# Altium integrated library TI Power Management Power Modules.IntLib: 831 symbols (part 8 of 44)
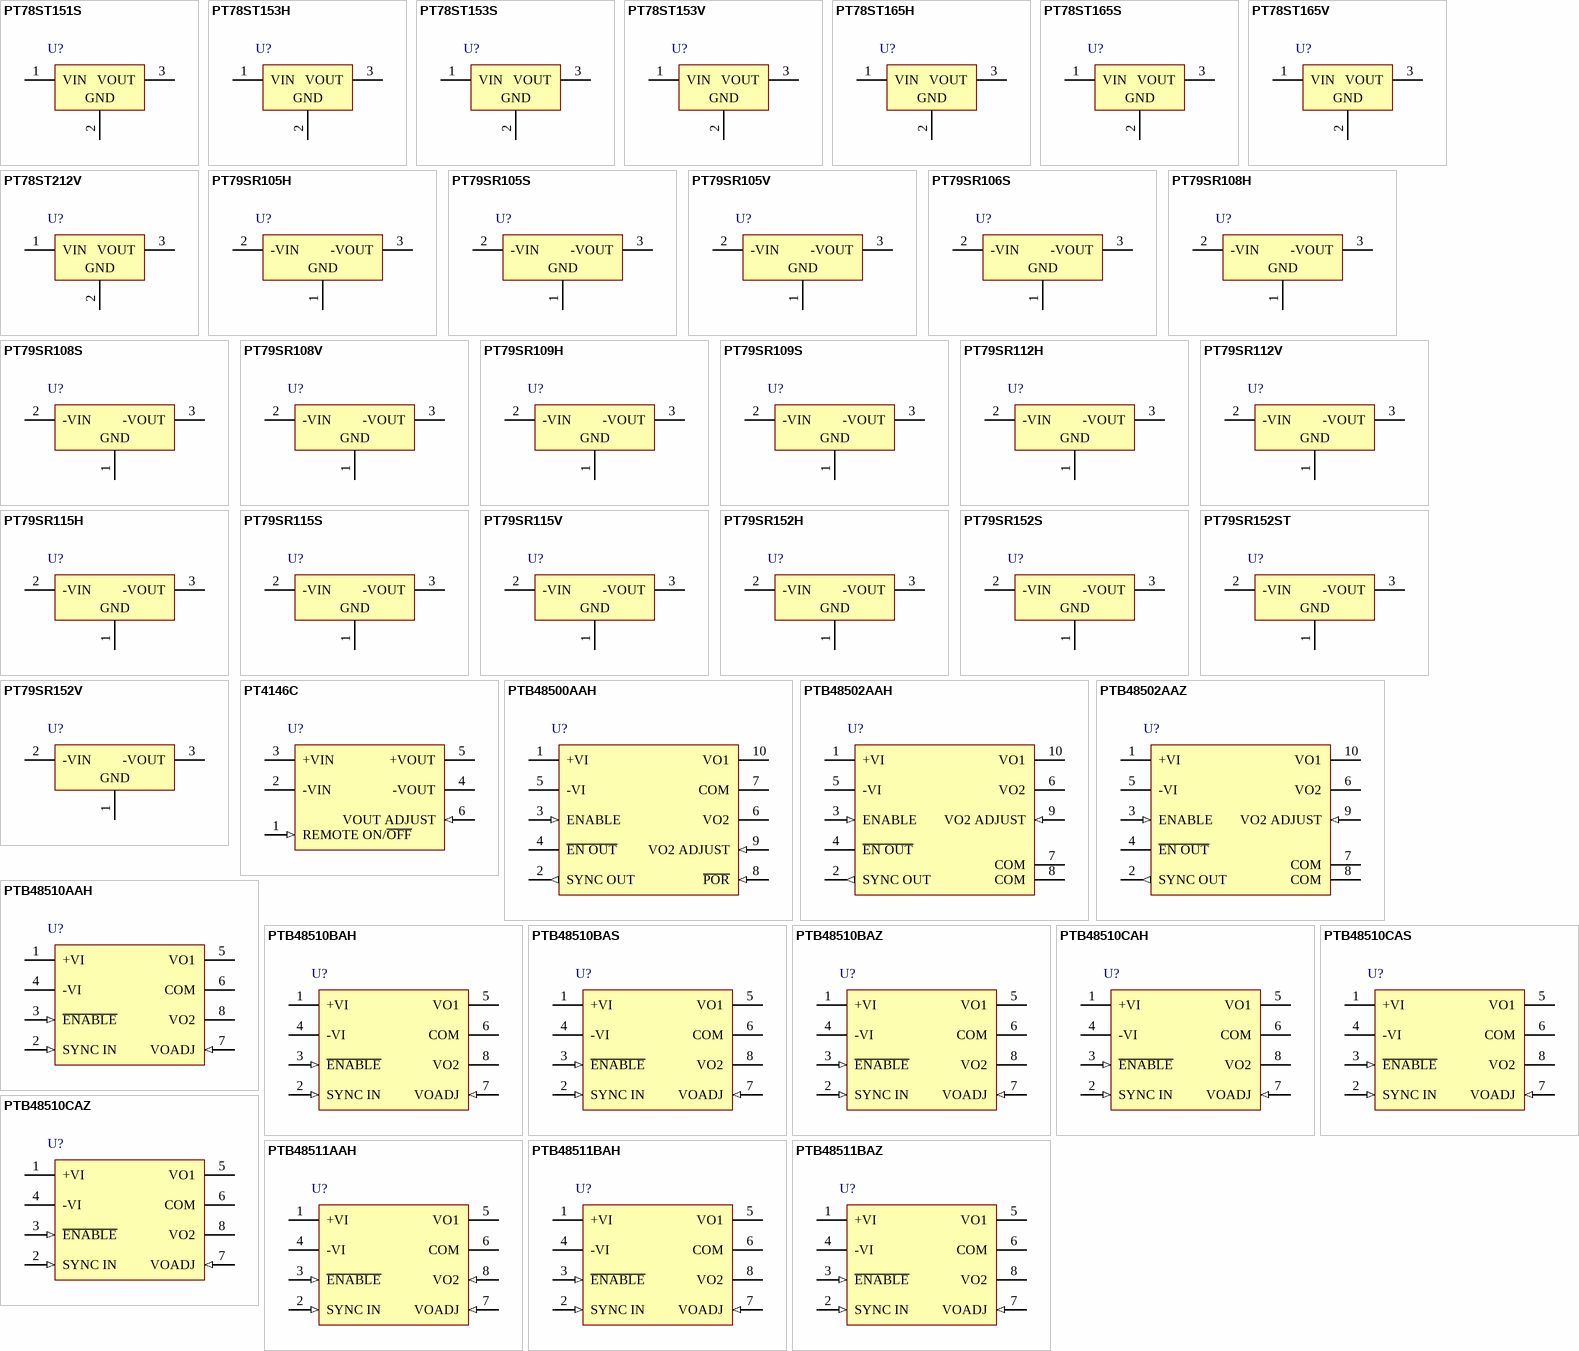
[diagram p30: symbols PT78ST151S to PTB48511BAZ]

## PT78ST165H
designator U?
6.5 V Vout 1.5 Amp Wide-Input Positive Step-Down ISR, -40 to 85 degC, 3-pin Module (EFA3), Pb-Free (RoHS); Manufacturer: Texas Instruments; PartNumber: PT78ST165H; Iout(Max)(A): 1.5; Regulated Outputs(#): 1; SubFamily: Non-Isolated POL; Vin(Max)(V): 38; Vin(Min)(V): 9; Vout(Max)(V): 6.5; DatasheetVersion: SLTS059A; PackageVersion: 4203861/C; PackageReference: EFA3; PackageDescription: 3-Pin Plastic In-Line, Body 23.87 x 22.86 mm; Supplier 1: Digi-Key; Supplier Part Number 1: PT78ST165H-ND; Supplier 2: Newark; Supplier Part Number 2: 75C7267; Supplier 3: Mouser; Supplier Part Number 3: 595-PT78ST165H; Eco-Plan: Pb-Free (RoHS); Vout(Min)(V): 6.5; Mounting Technology: Through Hole; ComponentLink1Description: Manufacturer URL; ComponentLink1URL: http://www.ti.com/; ComponentLink2Description: Datasheet; ComponentLink2URL: http://www.ti.com/general/docs/lit/getliterature.tsp?genericPartNumber=PT78ST165&fileType=pdf; ComponentLink3Description: Package Specification; ComponentLink3URL: http://www.ti.com/lit/ml/mpsi049b/mpsi049b.pdf; ComponentLink4Description: URL Link1; ComponentLink4URL: Samples URL:http://www.ti.com/product/pt78st165#samples
footprint TI-EFA3_V (Module, 3-Leads, Body 23.87x22.86 mm)
pins: 1 VIN (power), 2 GND (power), 3 VOUT (power)

## PT78ST165S
designator U?
6.5 V Vout 1.5 Amp Wide-Input Positive Step-Down ISR, -40 to 85 degC, 3-pin Module (EFC3), Pb-Free (RoHS); Manufacturer: Texas Instruments; PartNumber: PT78ST165S; Iout(Max)(A): 1.5; Regulated Outputs(#): 1; SubFamily: Non-Isolated POL; Vin(Max)(V): 38; Vin(Min)(V): 9; Vout(Max)(V): 6.5; DatasheetVersion: SLTS059A; PackageVersion: 4203862/C; PackageReference: EFC3; PackageDescription: 3-Pin Plastic In-Line, Body 23.87 x 22.86 mm; Supplier 1: Digi-Key; Supplier Part Number 1: 296-20293-ND; Supplier 2: Newark; Supplier Part Number 2: 75C7268; Supplier 3: Mouser; Supplier Part Number 3: 595-PT78ST165S; Eco-Plan: Pb-Free (RoHS); Vout(Min)(V): 6.5; Mounting Technology: Surface Mount; ComponentLink1Description: Manufacturer URL; ComponentLink1URL: http://www.ti.com/; ComponentLink2Description: Datasheet; ComponentLink2URL: http://www.ti.com/general/docs/lit/getliterature.tsp?genericPartNumber=PT78ST165&fileType=pdf; ComponentLink3Description: Package Specification; ComponentLink3URL: http://www.ti.com/lit/ml/mpsi050b/mpsi050b.pdf; ComponentLink4Description: URL Link1; ComponentLink4URL: Samples URL:http://www.ti.com/product/pt78st165#samples
footprint TI-EFC3_V (3-Leads Plastic In-Line, Body 22.86x23.87mm)
pins: 1 VIN (power), 2 GND (power), 3 VOUT (power)

## PT78ST165V
designator U?
6.5 V Vout 1.5 Amp Wide-Input Positive Step-Down ISR, -40 to 85 degC, 3-pin Module (EFD3), Pb-Free (RoHS); Manufacturer: Texas Instruments; PartNumber: PT78ST165V; Iout(Max)(A): 1.5; Regulated Outputs(#): 1; SubFamily: Non-Isolated POL; Vin(Max)(V): 38; Vin(Min)(V): 9; Vout(Max)(V): 6.5; DatasheetVersion: SLTS059A; PackageVersion: 4203860/A; PackageReference: EFD3; PackageDescription: 3-Pin Plastic In-Line, Body 23.87 x 22.86 mm; Supplier 1: Digi-Key; Supplier Part Number 1: 296-20294-ND; Supplier 2: Newark; Supplier Part Number 2: 75C7270; Supplier 3: Mouser; Supplier Part Number 3: 595-PT78ST165V; Eco-Plan: Pb-Free (RoHS); Vout(Min)(V): 6.5; Mounting Technology: Through Hole; ComponentLink1Description: Manufacturer URL; ComponentLink1URL: http://www.ti.com/; ComponentLink2Description: Datasheet; ComponentLink2URL: http://www.ti.com/general/docs/lit/getliterature.tsp?genericPartNumber=PT78ST165&fileType=pdf; ComponentLink3Description: Package Specification; ComponentLink3URL: http://www.ti.com/lit/ml/mpsi048/mpsi048.pdf; ComponentLink4Description: URL Link1; ComponentLink4URL: Samples URL:http://www.ti.com/product/pt78st165#samples
footprint TI-EFD3_V (Module, 3-Leads, Body 22.86x7.87mm)
pins: 1 VIN (power), 2 GND (power), 3 VOUT (power)

## PT78ST212V
designator U?
12 V Vout 2 Amp 24 V Input Positive Step-Down ISR, -40 to 55 degC, 3-pin Module (EFF3), Pb-Free (RoHS); Manufacturer: Texas Instruments; PartNumber: PT78ST212V; Iout(Max)(A): 2; Regulated Outputs(#): 1; SubFamily: Non-Isolated POL; Vin(Max)(V): 28; Vin(Min)(V): 16; Vout(Max)(V): 12; DatasheetVersion: SLTS060A; PackageVersion: 4203866/B; PackageReference: EFF3; PackageDescription: 3-Pin Metal In-Line, Body 24.89 x 25.65 mm; Supplier 1: Digi-Key; Supplier Part Number 1: PT78ST212V-ND; Supplier 2: Newark; Supplier Part Number 2: 75C7275; Supplier 3: Mouser; Supplier Part Number 3: 595-PT78ST212V; Eco-Plan: Pb-Free (RoHS); Vout(Min)(V): 12; Mounting Technology: Through Hole; ComponentLink1Description: Manufacturer URL; ComponentLink1URL: http://www.ti.com/; ComponentLink2Description: Datasheet; ComponentLink2URL: http://www.ti.com/general/docs/lit/getliterature.tsp?genericPartNumber=PT78ST212&fileType=pdf; ComponentLink3Description: Package Specification; ComponentLink3URL: http://www.ti.com/lit/ml/mmsi062a/mmsi062a.pdf; ComponentLink4Description: URL Link1; ComponentLink4URL: Samples URL:http://www.ti.com/product/pt78st212
footprint TI-EFF3_V (Module, 3-Leads, Body 25.65x9.65mm)
pins: 1 VIN (power), 2 GND (power), 3 VOUT (power)

## PT79SR105H
designator U?
-5 V Vout 1.5 Amp Wide-Input Negative Step-Down ISR, -40 to 85 degC, 3-pin Module (EFA3), Pb-Free (RoHS); Manufacturer: Texas Instruments; PartNumber: PT79SR105H; Iout(Max)(A): -1.5; Regulated Outputs(#): 1; SubFamily: Non-Isolated POL; Vin(Max)(V): -30; Vin(Min)(V): -9; DatasheetVersion: SLTS061A; PackageVersion: 4203861/C; PackageReference: EFA3; PackageDescription: 3-Pin Plastic In-Line, Body 23.87 x 22.86 mm; Supplier 1: Digi-Key; Supplier Part Number 1: PT79SR105H-ND; Supplier 2: Newark; Supplier Part Number 2: 75C7276; Supplier 3: Mouser; Supplier Part Number 3: 595-PT79SR105H; Eco-Plan: Pb-Free (RoHS); Vout(Max)(V): -5; Vout(Min)(V): -5; Mounting Technology: Through Hole; ComponentLink1Description: Manufacturer URL; ComponentLink1URL: http://www.ti.com/; ComponentLink2Description: Datasheet; ComponentLink2URL: http://www.ti.com/general/docs/lit/getliterature.tsp?genericPartNumber=PT79SR105&fileType=pdf; ComponentLink3Description: Package Specification; ComponentLink3URL: http://www.ti.com/lit/ml/mpsi049b/mpsi049b.pdf; ComponentLink4Description: URL Link1; ComponentLink4URL: Samples URL:http://www.ti.com/product/pt79sr105#samples
footprint TI-EFA3_V (Module, 3-Leads, Body 23.87x22.86 mm)
pins: 1 GND (power), 2 -VIN (power), 3 -VOUT (power)

## PT79SR105S
designator U?
-5 V Vout 1.5 Amp Wide-Input Negative Step-Down ISR, -40 to 85 degC, 3-pin Module (EFC3), Pb-Free (RoHS); Manufacturer: Texas Instruments; PartNumber: PT79SR105S; Iout(Max)(A): -1.5; Regulated Outputs(#): 1; SubFamily: Non-Isolated POL; Vin(Max)(V): -30; Vin(Min)(V): -9; DatasheetVersion: SLTS061A; PackageVersion: 4203862/C; PackageReference: EFC3; PackageDescription: 3-Pin Plastic In-Line, Body 23.87 x 22.86 mm; Supplier 1: Digi-Key; Supplier Part Number 1: PT79SR105S-ND; Supplier 2: Newark; Supplier Part Number 2: 75C7277; Supplier 3: Mouser; Supplier Part Number 3: 595-PT79SR105S; Eco-Plan: Pb-Free (RoHS); Vout(Max)(V): -5; Vout(Min)(V): -5; Mounting Technology: Surface Mount; ComponentLink1Description: Manufacturer URL; ComponentLink1URL: http://www.ti.com/; ComponentLink2Description: Datasheet; ComponentLink2URL: http://www.ti.com/general/docs/lit/getliterature.tsp?genericPartNumber=PT79SR105&fileType=pdf; ComponentLink3Description: Package Specification; ComponentLink3URL: http://www.ti.com/lit/ml/mpsi050b/mpsi050b.pdf; ComponentLink4Description: URL Link1; ComponentLink4URL: Samples URL:http://www.ti.com/product/pt79sr105#samples
footprint TI-EFC3_V (3-Leads Plastic In-Line, Body 22.86x23.87mm)
pins: 1 GND (power), 2 -VIN (power), 3 -VOUT (power)

## PT79SR105V
designator U?
-5 V Vout 1.5 Amp Wide-Input Negative Step-Down ISR, -40 to 85 degC, 3-pin Module (EFD3), Pb-Free (RoHS); Manufacturer: Texas Instruments; PartNumber: PT79SR105V; Iout(Max)(A): -1.5; Regulated Outputs(#): 1; SubFamily: Non-Isolated POL; Vin(Max)(V): -30; Vin(Min)(V): -9; DatasheetVersion: SLTS061A; PackageVersion: 4203860/A; PackageReference: EFD3; PackageDescription: 3-Pin Plastic In-Line, Body 23.87 x 22.86 mm; Supplier 1: Digi-Key; Supplier Part Number 1: PT79SR105V-ND; Supplier 2: Newark; Supplier Part Number 2: 75C7279; Supplier 3: Mouser; Supplier Part Number 3: 595-PT79SR105V; Eco-Plan: Pb-Free (RoHS); Vout(Max)(V): -5; Vout(Min)(V): -5; Mounting Technology: Through Hole; ComponentLink1Description: Manufacturer URL; ComponentLink1URL: http://www.ti.com/; ComponentLink2Description: Datasheet; ComponentLink2URL: http://www.ti.com/general/docs/lit/getliterature.tsp?genericPartNumber=PT79SR105&fileType=pdf; ComponentLink3Description: Package Specification; ComponentLink3URL: http://www.ti.com/lit/ml/mpsi048/mpsi048.pdf; ComponentLink4Description: URL Link1; ComponentLink4URL: Samples URL:http://www.ti.com/product/pt79sr105#samples
footprint TI-EFD3_V (Module, 3-Leads, Body 22.86x7.87mm)
pins: 1 GND (power), 2 -VIN (power), 3 -VOUT (power)

## PT79SR106S
designator U?
-6 V Vout 1.5 Amp Wide-Input Negative Step-Down ISR, -40 to 85 degC, 3-pin Module (EFC3), Pb-Free (RoHS); Manufacturer: Texas Instruments; PartNumber: PT79SR106S; Iout(Max)(A): -1.5; Regulated Outputs(#): 1; SubFamily: Non-Isolated POL; Vin(Max)(V): -30; Vin(Min)(V): -9; DatasheetVersion: SLTS061A; PackageVersion: 4203862/C; PackageReference: EFC3; PackageDescription: 3-Pin Plastic In-Line, Body 23.87 x 22.86 mm; Supplier 1: Digi-Key; Supplier Part Number 1: PT79SR106S-ND; Supplier 2: Newark; Supplier Part Number 2: 75C7280; Supplier 3: Mouser; Supplier Part Number 3: 595-PT79SR106S; Eco-Plan: Pb-Free (RoHS); Vout(Max)(V): -6; Vout(Min)(V): -6; Mounting Technology: Surface Mount; ComponentLink1Description: Manufacturer URL; ComponentLink1URL: http://www.ti.com/; ComponentLink2Description: Datasheet; ComponentLink2URL: http://www.ti.com/general/docs/lit/getliterature.tsp?genericPartNumber=PT79SR106&fileType=pdf; ComponentLink3Description: Package Specification; ComponentLink3URL: http://www.ti.com/lit/ml/mpsi050b/mpsi050b.pdf; ComponentLink4Description: URL Link1; ComponentLink4URL: Samples URL:http://www.ti.com/product/pt79sr106#samples
footprint TI-EFC3_V (3-Leads Plastic In-Line, Body 22.86x23.87mm)
pins: 1 GND (power), 2 -VIN (power), 3 -VOUT (power)

## PT79SR108H
designator U?
-8 V Vout 1.5 Amp Wide-Input Negative Step-Down ISR, -40 to 60 degC, 3-pin Module (EFA3), Pb-Free (RoHS); Manufacturer: Texas Instruments; PartNumber: PT79SR108H; Iout(Max)(A): -1.5; Regulated Outputs(#): 1; SubFamily: Non-Isolated POL; Vin(Max)(V): -30; Vin(Min)(V): -12; DatasheetVersion: SLTS061A; PackageVersion: 4203861/C; PackageReference: EFA3; PackageDescription: 3-Pin Plastic In-Line, Body 23.87 x 22.86 mm; Supplier 1: Digi-Key; Supplier Part Number 1: PT79SR108H-ND; Supplier 2: Newark; Supplier Part Number 2: 75C7281; Supplier 3: Mouser; Supplier Part Number 3: 595-PT79SR108H; Eco-Plan: Pb-Free (RoHS); Vout(Max)(V): -8; Vout(Min)(V): -8; Mounting Technology: Through Hole; ComponentLink1Description: Manufacturer URL; ComponentLink1URL: http://www.ti.com/; ComponentLink2Description: Datasheet; ComponentLink2URL: http://www.ti.com/general/docs/lit/getliterature.tsp?genericPartNumber=PT79SR108&fileType=pdf; ComponentLink3Description: Package Specification; ComponentLink3URL: http://www.ti.com/lit/ml/mpsi049b/mpsi049b.pdf; ComponentLink4Description: URL Link1; ComponentLink4URL: Samples URL:http://www.ti.com/product/pt79sr108#samples
footprint TI-EFA3_V (Module, 3-Leads, Body 23.87x22.86 mm)
pins: 1 GND (power), 2 -VIN (power), 3 -VOUT (power)

## PT79SR108S
designator U?
-8 V Vout 1.5 Amp Wide-Input Negative Step-Down ISR, -40 to 60 degC, 3-pin Module (EFC3), Pb-Free (RoHS); Manufacturer: Texas Instruments; PartNumber: PT79SR108S; Iout(Max)(A): -1.5; Regulated Outputs(#): 1; SubFamily: Non-Isolated POL; Vin(Max)(V): -30; Vin(Min)(V): -12; DatasheetVersion: SLTS061A; PackageVersion: 4203862/C; PackageReference: EFC3; PackageDescription: 3-Pin Plastic In-Line, Body 23.87 x 22.86 mm; Supplier 1: Digi-Key; Supplier Part Number 1: PT79SR108S-ND; Supplier 2: Mouser; Supplier Part Number 2: 595-PT79SR108S; Eco-Plan: Pb-Free (RoHS); Vout(Max)(V): -8; Vout(Min)(V): -8; Mounting Technology: Surface Mount; ComponentLink1Description: Manufacturer URL; ComponentLink1URL: http://www.ti.com/; ComponentLink2Description: Datasheet; ComponentLink2URL: http://www.ti.com/general/docs/lit/getliterature.tsp?genericPartNumber=PT79SR108&fileType=pdf; ComponentLink3Description: Package Specification; ComponentLink3URL: http://www.ti.com/lit/ml/mpsi050b/mpsi050b.pdf; ComponentLink4Description: URL Link1; ComponentLink4URL: Samples URL:http://www.ti.com/product/pt79sr108#samples
footprint TI-EFC3_V (3-Leads Plastic In-Line, Body 22.86x23.87mm)
pins: 1 GND (power), 2 -VIN (power), 3 -VOUT (power)

## PT79SR108V
designator U?
-8 V Vout 1.5 Amp Wide-Input Negative Step-Down ISR, -40 to 60 degC, 3-pin Module (EFD3), Pb-Free (RoHS); Manufacturer: Texas Instruments; PartNumber: PT79SR108V; Iout(Max)(A): -1.5; Regulated Outputs(#): 1; SubFamily: Non-Isolated POL; Vin(Max)(V): -30; Vin(Min)(V): -12; DatasheetVersion: SLTS061A; PackageVersion: 4203860/A; PackageReference: EFD3; PackageDescription: 3-Pin Plastic In-Line, Body 23.87 x 22.86 mm; Supplier 1: Digi-Key; Supplier Part Number 1: PT79SR108V-ND; Supplier 2: Newark; Supplier Part Number 2: 75C7284; Supplier 3: Mouser; Supplier Part Number 3: 595-PT79SR108V; Eco-Plan: Pb-Free (RoHS); Vout(Max)(V): -8; Vout(Min)(V): -8; Mounting Technology: Through Hole; ComponentLink1Description: Manufacturer URL; ComponentLink1URL: http://www.ti.com/; ComponentLink2Description: Datasheet; ComponentLink2URL: http://www.ti.com/general/docs/lit/getliterature.tsp?genericPartNumber=PT79SR108&fileType=pdf; ComponentLink3Description: Package Specification; ComponentLink3URL: http://www.ti.com/lit/ml/mpsi048/mpsi048.pdf; ComponentLink4Description: URL Link1; ComponentLink4URL: Samples URL:http://www.ti.com/product/pt79sr108#samples
footprint TI-EFD3_V (Module, 3-Leads, Body 22.86x7.87mm)
pins: 1 GND (power), 2 -VIN (power), 3 -VOUT (power)

## PT79SR109H
designator U?
-9 V Vout 1.5 Amp Wide-Input Negative Step-Down ISR, -40 to 85 degC, 3-pin Module (EFA3), Pb-Free (RoHS); Manufacturer: Texas Instruments; PartNumber: PT79SR109H; Iout(Max)(A): 1.5; Regulated Outputs(#): 1; SubFamily: Non-Isolated POL; Vin(Max)(V): -30; Vin(Min)(V): -13; DatasheetVersion: SLTS061A; PackageVersion: 4203861/C; PackageReference: EFA3; PackageDescription: 3-Pin Plastic In-Line, Body 23.87 x 22.86 mm; Supplier 1: Digi-Key; Supplier Part Number 1: 296-20295-ND; Supplier 2: Newark; Supplier Part Number 2: 75C7285; Supplier 3: Mouser; Supplier Part Number 3: 595-PT79SR109H; Eco-Plan: Pb-Free (RoHS); Vout(Max)(V): -9; Vout(Min)(V): -9; Mounting Technology: Through Hole; ComponentLink1Description: Manufacturer URL; ComponentLink1URL: http://www.ti.com/; ComponentLink2Description: Datasheet; ComponentLink2URL: http://www.ti.com/general/docs/lit/getliterature.tsp?genericPartNumber=PT79SR109&fileType=pdf; ComponentLink3Description: Package Specification; ComponentLink3URL: http://www.ti.com/lit/ml/mpsi049b/mpsi049b.pdf; ComponentLink4Description: URL Link1; ComponentLink4URL: Samples URL:http://www.ti.com/product/pt79sr109#samples
footprint TI-EFA3_V (Module, 3-Leads, Body 23.87x22.86 mm)
pins: 1 GND (power), 2 -VIN (power), 3 -VOUT (power)

## PT79SR109S
designator U?
-9 V Vout 1.5 Amp Wide-Input Negative Step-Down ISR, -40 to 85 degC, 3-pin Module (EFC3), Pb-Free (RoHS); Manufacturer: Texas Instruments; PartNumber: PT79SR109S; Iout(Max)(A): 1.5; Regulated Outputs(#): 1; SubFamily: Non-Isolated POL; Vin(Max)(V): -30; Vin(Min)(V): -13; DatasheetVersion: SLTS061A; PackageVersion: 4203862/C; PackageReference: EFC3; PackageDescription: 3-Pin Plastic In-Line, Body 23.87 x 22.86 mm; Supplier 1: Digi-Key; Supplier Part Number 1: 296-20296-ND; Supplier 2: Newark; Supplier Part Number 2: 75C7286; Supplier 3: Mouser; Supplier Part Number 3: 595-PT79SR109S; Eco-Plan: Pb-Free (RoHS); Vout(Max)(V): -9; Vout(Min)(V): -9; Mounting Technology: Surface Mount; ComponentLink1Description: Manufacturer URL; ComponentLink1URL: http://www.ti.com/; ComponentLink2Description: Datasheet; ComponentLink2URL: http://www.ti.com/general/docs/lit/getliterature.tsp?genericPartNumber=PT79SR109&fileType=pdf; ComponentLink3Description: Package Specification; ComponentLink3URL: http://www.ti.com/lit/ml/mpsi050b/mpsi050b.pdf; ComponentLink4Description: URL Link1; ComponentLink4URL: Samples URL:http://www.ti.com/product/pt79sr109#samples
footprint TI-EFC3_V (3-Leads Plastic In-Line, Body 22.86x23.87mm)
pins: 1 GND (power), 2 -VIN (power), 3 -VOUT (power)

## PT79SR112H
designator U?
-12 V Vout 1.5 Amp Wide-Input Negative Step-Down ISR, -40 to 85 degC, 3-pin Module (EFA3), Pb-Free (RoHS); Manufacturer: Texas Instruments; PartNumber: PT79SR112H; Iout(Max)(A): 1.5; Regulated Outputs(#): 1; SubFamily: Non-Isolated POL; Vin(Max)(V): -30; Vin(Min)(V): -16; DatasheetVersion: SLTS061A; PackageVersion: 4203861/C; PackageReference: EFA3; PackageDescription: 3-Pin Plastic In-Line, Body 23.87 x 22.86 mm; Supplier 1: Digi-Key; Supplier Part Number 1: PT79SR112H-ND; Supplier 2: Newark; Supplier Part Number 2: 75C7288; Supplier 3: Mouser; Supplier Part Number 3: 595-PT79SR112H; Eco-Plan: Pb-Free (RoHS); Vout(Max)(V): -12; Vout(Min)(V): -12; Mounting Technology: Through Hole; ComponentLink1Description: Manufacturer URL; ComponentLink1URL: http://www.ti.com/; ComponentLink2Description: Datasheet; ComponentLink2URL: http://www.ti.com/general/docs/lit/getliterature.tsp?genericPartNumber=PT79SR112&fileType=pdf; ComponentLink3Description: Package Specification; ComponentLink3URL: http://www.ti.com/lit/ml/mpsi049b/mpsi049b.pdf; ComponentLink4Description: URL Link1; ComponentLink4URL: Samples URL:http://www.ti.com/product/pt79sr112#samples
footprint TI-EFA3_V (Module, 3-Leads, Body 23.87x22.86 mm)
pins: 1 GND (power), 2 -VIN (power), 3 -VOUT (power)

## PT79SR112V
designator U?
-12 V Vout 1.5 Amp Wide-Input Negative Step-Down ISR, -40 to 85 degC, 3-pin Module (EFD3), Pb-Free (RoHS); Manufacturer: Texas Instruments; PartNumber: PT79SR112V; Iout(Max)(A): 1.5; Regulated Outputs(#): 1; SubFamily: Non-Isolated POL; Vin(Max)(V): -30; Vin(Min)(V): -16; DatasheetVersion: SLTS061A; PackageVersion: 4203860/A; PackageReference: EFD3; PackageDescription: 3-Pin Plastic In-Line, Body 23.87 x 22.86 mm; Supplier 1: Digi-Key; Supplier Part Number 1: PT79SR112V-ND; Supplier 2: Farnell; Supplier Part Number 2: 1755073; Supplier 3: Newark; Supplier Part Number 3: 75C7291; Supplier 4: Mouser; Supplier Part Number 4: 595-PT79SR112V; Eco-Plan: Pb-Free (RoHS); Vout(Max)(V): -12; Vout(Min)(V): -12; Mounting Technology: Through Hole; ComponentLink1Description: Manufacturer URL; ComponentLink1URL: http://www.ti.com/; ComponentLink2Description: Datasheet; ComponentLink2URL: http://www.ti.com/general/docs/lit/getliterature.tsp?genericPartNumber=PT79SR112&fileType=pdf; ComponentLink3Description: Package Specification; ComponentLink3URL: http://www.ti.com/lit/ml/mpsi048/mpsi048.pdf; ComponentLink4Description: URL Link1; ComponentLink4URL: Samples URL:http://www.ti.com/product/pt79sr112#samples
footprint TI-EFD3_V (Module, 3-Leads, Body 22.86x7.87mm)
pins: 1 GND (power), 2 -VIN (power), 3 -VOUT (power)

## PT79SR115H
designator U?
-15 V Vout 1.5 Amp Wide-Input Negative Step-Down ISR, -40 to 60 degC, 3-pin Module (EFA3), Pb-Free (RoHS); Manufacturer: Texas Instruments; PartNumber: PT79SR115H; Iout(Max)(A): -1.5; Regulated Outputs(#): 1; SubFamily: Non-Isolated POL; Vin(Max)(V): -30; Vin(Min)(V): -19; DatasheetVersion: SLTS061A; PackageVersion: 4203861/C; PackageReference: EFA3; PackageDescription: 3-Pin Plastic In-Line, Body 23.87 x 22.86 mm; Supplier 1: Digi-Key; Supplier Part Number 1: 296-20298-ND; Supplier 2: Newark; Supplier Part Number 2: 75C7292; Supplier 3: Mouser; Supplier Part Number 3: 595-PT79SR115H; Eco-Plan: Pb-Free (RoHS); Vout(Max)(V): -15; Vout(Min)(V): -15; Mounting Technology: Through Hole; ComponentLink1Description: Manufacturer URL; ComponentLink1URL: http://www.ti.com/; ComponentLink2Description: Datasheet; ComponentLink2URL: http://www.ti.com/general/docs/lit/getliterature.tsp?genericPartNumber=PT79SR115&fileType=pdf; ComponentLink3Description: Package Specification; ComponentLink3URL: http://www.ti.com/lit/ml/mpsi049b/mpsi049b.pdf; ComponentLink4Description: URL Link1; ComponentLink4URL: Samples URL:http://www.ti.com/product/pt79sr115#samples
footprint TI-EFA3_V (Module, 3-Leads, Body 23.87x22.86 mm)
pins: 1 GND (power), 2 -VIN (power), 3 -VOUT (power)

## PT79SR115S
designator U?
-15 V Vout 1.5 Amp Wide-Input Negative Step-Down ISR, -40 to 60 degC, 3-pin Module (EFC3), Pb-Free (RoHS); Manufacturer: Texas Instruments; PartNumber: PT79SR115S; Iout(Max)(A): -1.5; Regulated Outputs(#): 1; SubFamily: Non-Isolated POL; Vin(Max)(V): -30; Vin(Min)(V): -19; DatasheetVersion: SLTS061A; PackageVersion: 4203862/C; PackageReference: EFC3; PackageDescription: 3-Pin Plastic In-Line, Body 23.87 x 22.86 mm; Supplier 1: Digi-Key; Supplier Part Number 1: 296-20299-ND; Supplier 2: Newark; Supplier Part Number 2: 75C7293; Supplier 3: Mouser; Supplier Part Number 3: 595-PT79SR115S; Eco-Plan: Pb-Free (RoHS); Vout(Max)(V): -15; Vout(Min)(V): -15; Mounting Technology: Surface Mount; ComponentLink1Description: Manufacturer URL; ComponentLink1URL: http://www.ti.com/; ComponentLink2Description: Datasheet; ComponentLink2URL: http://www.ti.com/general/docs/lit/getliterature.tsp?genericPartNumber=PT79SR115&fileType=pdf; ComponentLink3Description: Package Specification; ComponentLink3URL: http://www.ti.com/lit/ml/mpsi050b/mpsi050b.pdf; ComponentLink4Description: URL Link1; ComponentLink4URL: Samples URL:http://www.ti.com/product/pt79sr115#samples
footprint TI-EFC3_V (3-Leads Plastic In-Line, Body 22.86x23.87mm)
pins: 1 GND (power), 2 -VIN (power), 3 -VOUT (power)

## PT79SR115V
designator U?
-15 V Vout 1.5 Amp Wide-Input Negative Step-Down ISR, -40 to 60 degC, 3-pin Module (EFD3), Pb-Free (RoHS); Manufacturer: Texas Instruments; PartNumber: PT79SR115V; Iout(Max)(A): -1.5; Regulated Outputs(#): 1; SubFamily: Non-Isolated POL; Vin(Max)(V): -30; Vin(Min)(V): -19; DatasheetVersion: SLTS061A; PackageVersion: 4203860/A; PackageReference: EFD3; PackageDescription: 3-Pin Plastic In-Line, Body 23.87 x 22.86 mm; Supplier 1: Digi-Key; Supplier Part Number 1: 296-20300-ND; Supplier 2: Newark; Supplier Part Number 2: 26C9870; Supplier 3: Mouser; Supplier Part Number 3: 595-PT79SR115V; Eco-Plan: Pb-Free (RoHS); Vout(Max)(V): -15; Vout(Min)(V): -15; Mounting Technology: Through Hole; ComponentLink1Description: Manufacturer URL; ComponentLink1URL: http://www.ti.com/; ComponentLink2Description: Datasheet; ComponentLink2URL: http://www.ti.com/general/docs/lit/getliterature.tsp?genericPartNumber=PT79SR115&fileType=pdf; ComponentLink3Description: Package Specification; ComponentLink3URL: http://www.ti.com/lit/ml/mpsi048/mpsi048.pdf; ComponentLink4Description: URL Link1; ComponentLink4URL: Samples URL:http://www.ti.com/product/pt79sr115#samples
footprint TI-EFD3_V (Module, 3-Leads, Body 22.86x7.87mm)
pins: 1 GND (power), 2 -VIN (power), 3 -VOUT (power)

## PT79SR152H
designator U?
-5.2 V Vout 1.5 Amp Wide-Input Negative Step-Down ISR, -40 to 85 degC, 3-pin Module (EFA3), Pb-Free (RoHS); Manufacturer: Texas Instruments; PartNumber: PT79SR152H; Iout(Max)(A): -1.5; Regulated Outputs(#): 1; SubFamily: Non-Isolated POL; Vin(Max)(V): -30; Vin(Min)(V): -9.2; DatasheetVersion: SLTS061A; PackageVersion: 4203861/C; PackageReference: EFA3; PackageDescription: 3-Pin Plastic In-Line, Body 23.87 x 22.86 mm; Supplier 1: Digi-Key; Supplier Part Number 1: 296-20301-ND; Supplier 2: Newark; Supplier Part Number 2: 75C7295; Supplier 3: Mouser; Supplier Part Number 3: 595-PT79SR152H; Eco-Plan: Pb-Free (RoHS); Vout(Max)(V): -5.2; Vout(Min)(V): -5.2; Mounting Technology: Through Hole; ComponentLink1Description: Manufacturer URL; ComponentLink1URL: http://www.ti.com/; ComponentLink2Description: Datasheet; ComponentLink2URL: http://www.ti.com/general/docs/lit/getliterature.tsp?genericPartNumber=PT79SR152&fileType=pdf; ComponentLink3Description: Package Specification; ComponentLink3URL: http://www.ti.com/lit/ml/mpsi049b/mpsi049b.pdf; ComponentLink4Description: URL Link1; ComponentLink4URL: Samples URL:http://www.ti.com/product/pt79sr152#samples
footprint TI-EFA3_V (Module, 3-Leads, Body 23.87x22.86 mm)
pins: 1 GND (power), 2 -VIN (power), 3 -VOUT (power)

## PT79SR152S
designator U?
-5.2 V Vout 1.5 Amp Wide-Input Negative Step-Down ISR, -40 to 85 degC, 3-pin Module (EFC3), Pb-Free (RoHS); Manufacturer: Texas Instruments; PartNumber: PT79SR152S; Iout(Max)(A): -1.5; Regulated Outputs(#): 1; SubFamily: Non-Isolated POL; Vin(Max)(V): -30; Vin(Min)(V): -9.2; DatasheetVersion: SLTS061A; PackageVersion: 4203862/C; PackageReference: EFC3; PackageDescription: 3-Pin Plastic In-Line, Body 23.87 x 22.86 mm; Supplier 1: Digi-Key; Supplier Part Number 1: 296-20302-ND; Supplier 2: Newark; Supplier Part Number 2: 75C7296; Supplier 3: Mouser; Supplier Part Number 3: 595-PT79SR152S; Eco-Plan: Pb-Free (RoHS); Vout(Max)(V): -5.2; Vout(Min)(V): -5.2; Mounting Technology: Surface Mount; ComponentLink1Description: Manufacturer URL; ComponentLink1URL: http://www.ti.com/; ComponentLink2Description: Datasheet; ComponentLink2URL: http://www.ti.com/general/docs/lit/getliterature.tsp?genericPartNumber=PT79SR152&fileType=pdf; ComponentLink3Description: Package Specification; ComponentLink3URL: http://www.ti.com/lit/ml/mpsi050b/mpsi050b.pdf; ComponentLink4Description: URL Link1; ComponentLink4URL: Samples URL:http://www.ti.com/product/pt79sr152#samples
footprint TI-EFC3_V (3-Leads Plastic In-Line, Body 22.86x23.87mm)
pins: 1 GND (power), 2 -VIN (power), 3 -VOUT (power)

## PT79SR152ST
designator U?
-5.2 V Vout 1.5 Amp Wide-Input Negative Step-Down ISR, -40 to 85 degC, 3-pin Module (EFC3), Pb-Free (RoHS); Manufacturer: Texas Instruments; PartNumber: PT79SR152ST; Iout(Max)(A): -1.5; Regulated Outputs(#): 1; SubFamily: Non-Isolated POL; Vin(Max)(V): -30; Vin(Min)(V): -9.2; DatasheetVersion: SLTS061A; PackageVersion: 4203862/C; PackageReference: EFC3; PackageDescription: 3-Pin Plastic In-Line, Body 23.87 x 22.86 mm; Supplier 1: Digi-Key; Supplier Part Number 1: 296-32206-2-ND; Supplier 2: Digi-Key; Supplier Part Number 2: 296-32206-1-ND; Supplier 3: Digi-Key; Supplier Part Number 3: 296-32206-6-ND; Supplier 4: Newark; Supplier Part Number 4: 44J0226; Supplier 5: Mouser; Supplier Part Number 5: 595-PT79SR152ST; Eco-Plan: Pb-Free (RoHS); Vout(Max)(V): -5.2; Vout(Min)(V): -5.2; Mounting Technology: Surface Mount; ComponentLink1Description: Manufacturer URL; ComponentLink1URL: http://www.ti.com/; ComponentLink2Description: Datasheet; ComponentLink2URL: http://www.ti.com/general/docs/lit/getliterature.tsp?genericPartNumber=PT79SR152&fileType=pdf; ComponentLink3Description: Package Specification; ComponentLink3URL: http://www.ti.com/lit/ml/mpsi050b/mpsi050b.pdf; ComponentLink4Description: URL Link1; ComponentLink4URL: Samples URL:http://www.ti.com/product/pt79sr152#samples
footprint TI-EFC3_V (3-Leads Plastic In-Line, Body 22.86x23.87mm)
pins: 1 GND (power), 2 -VIN (power), 3 -VOUT (power)

## PT79SR152V
designator U?
-5.2 V Vout 1.5 Amp Wide-Input Negative Step-Down ISR, -40 to 85 degC, 3-pin Module (EFD3), Pb-Free (RoHS); Manufacturer: Texas Instruments; PartNumber: PT79SR152V; Iout(Max)(A): -1.5; Regulated Outputs(#): 1; SubFamily: Non-Isolated POL; Vin(Max)(V): -30; Vin(Min)(V): -9.2; DatasheetVersion: SLTS061A; PackageVersion: 4203860/A; PackageReference: EFD3; PackageDescription: 3-Pin Plastic In-Line, Body 23.87 x 22.86 mm; Supplier 1: Digi-Key; Supplier Part Number 1: 296-20303-ND; Supplier 2: Newark; Supplier Part Number 2: 75C7297; Supplier 3: Mouser; Supplier Part Number 3: 595-PT79SR152V; Eco-Plan: Pb-Free (RoHS); Vout(Max)(V): -5.2; Vout(Min)(V): -5.2; Mounting Technology: Through Hole; ComponentLink1Description: Manufacturer URL; ComponentLink1URL: http://www.ti.com/; ComponentLink2Description: Datasheet; ComponentLink2URL: http://www.ti.com/general/docs/lit/getliterature.tsp?genericPartNumber=PT79SR152&fileType=pdf; ComponentLink3Description: Package Specification; ComponentLink3URL: http://www.ti.com/lit/ml/mpsi048/mpsi048.pdf; ComponentLink4Description: URL Link1; ComponentLink4URL: Samples URL:http://www.ti.com/product/pt79sr152#samples
footprint TI-EFD3_V (Module, 3-Leads, Body 22.86x7.87mm)
pins: 1 GND (power), 2 -VIN (power), 3 -VOUT (power)

## PT4146C
designator U?
1.5 V Vout 5 Amp 24 V Input Isolated DC-DC Converter, -40 to 85 degC, 6-pin Module (EGE6), Pb-Free (RoHS); Manufacturer: Texas Instruments; PartNumber: PT4146C; Iout(Max)(A): 5; Regulated Outputs(#): 1; SubFamily: Standard Brick Module; Vin(Max)(V): 40; Vin(Min)(V): 18; VO Adjustable: TRUE; Vout(Max)(V): 1.5; DatasheetVersion: SLTS120B; PackageVersion: 4203199/B; PackageReference: EGE6; PackageDescription: 6-Pin Plastic In-Line, Body 37.59 x 42.42 mm; Supplier 1: Digi-Key; Supplier Part Number 1: PT4146C-ND; Supplier 2: Mouser; Supplier Part Number 2: 595-PT4146C; Eco-Plan: Pb-Free (RoHS); Vout(Min)(V): 1.5; Mounting Technology: Surface Mount; ComponentLink1Description: Manufacturer URL; ComponentLink1URL: http://www.ti.com/; ComponentLink2Description: Datasheet; ComponentLink2URL: http://www.ti.com/general/docs/lit/getliterature.tsp?genericPartNumber=PT4146&fileType=pdf; ComponentLink3Description: Package Specification; ComponentLink3URL: http://www.ti.com/lit/ml/mpdi078a/mpdi078a.pdf; ComponentLink4Description: URL Link1; ComponentLink4URL: Samples URL:http://www.ti.com/product/pt4146
footprint TI-EGE6_V (Module, 6-Leads, Body 42.42x37.59mm)
pins: 1 REMOTE ON/~{OFF} (in), 2 -VIN (power), 3 +VIN (power), 4 -VOUT (power), 5 +VOUT (power), 6 VOUT ADJUST (in)

## PTB48500AAH
designator U?
3.3 / 1.2 V 28 W Output, 48 V Input DC-DC Converter, -40 to 85 degC, 10-pin Module (ERH10), Pb-Free (RoHS); Manufacturer: Texas Instruments; PartNumber: PTB48500AAH; Iout(Max)(A): 6; Regulated Outputs(#): 2; SubFamily: Standard Brick Module; Vin(Max)(V): 75; Vin(Min)(V): 36; DatasheetVersion: SLTS218C; PackageVersion: 4205250/A; PackageReference: ERH10; PackageDescription: 10-Pin Plastic Special Shape, Body 36.83 x 56.39 mm; Supplier 1: Digi-Key; Supplier Part Number 1: 296-20306-ND; Supplier 2: Newark; Supplier Part Number 2: 87H2501; Supplier 3: Mouser; Supplier Part Number 3: 595-PTB48500AAH; Eco-Plan: Pb-Free (RoHS); Mounting Technology: Through Hole; ComponentLink1Description: Manufacturer URL; ComponentLink1URL: http://www.ti.com/; ComponentLink2Description: Datasheet; ComponentLink2URL: http://www.ti.com/general/docs/lit/getliterature.tsp?genericPartNumber=PTB48500A&fileType=pdf; ComponentLink3Description: Package Specification; ComponentLink3URL: http://www.ti.com/litv/pdf/mpds146; ComponentLink4Description: URL Link1; ComponentLink4URL: Samples URL:http://www.ti.com/product/ptb48500a#samples
footprint TI-ERH10_V (Module, 10-Leads, Body 56.39x36.83 mm)
pins: 1 +VI (power) "The positive input supply for the module with respect to -VI. When powering the module from a -48 V telecom central office supply, this input is connected to the primary system ground.", 2 SYNC OUT (out) "The signal generated by this pin is designed to be used exclusively with the PTB48510 in AC7 ADSL applications. When the Sync Out of this converter is connected directly to the Sync In pin of the PTB48510, both modules will (See Datasheet)", 3 ENABLE (in) "This is an open-collector (open-drain) positive logic input that enables the module output. This pin is referenced to -VI. A logic 0 at this pin disables the module's outputs, and a high impedance enables the outputs. If not (See Datasheet)", 4 ~{EN OUT} (oc) "This open-collector output may be used to enable the output of other DC/DC converters in applications where the power-up sequence of the related voltages must be precisely controlled. The output is used principally to (See Datasheet)", 5 -VI (power) "The negative input supply for the module, and the 0 VDC reference for the Enable, EN Out, and Sync Out signals. When the module is powered from a +48 -V supply, this input is connected to the 48-V Return.", 6 VO2 (power) "The lower regulated power output voltage, which is referenced to the COM node.", 7 COM (power) "The secondray return reference for the module's two regulated output voltages. It is dc isolated from the input supply pins.", 8 ~{POR} (in) "This pin produces an active-low power-on reset signal that may be used to reset logic circuitry. The output is set low during power up just as the output voltage from VO1 starts to rise. It remains low for 10 ms after the (See Datasheet)", 9 VO2 ADJUST (in) "Using a single resistor, this pin allows VO2 to be adjustted higher or lower than the preset value . If not used, this pin should be left open circuit.", 10 VO1 (power) "The higher regulated power output voltage, which is referenced to the COM node."

## PTB48502AAH
designator U?
3.3 / 1.2 V 45 W Output, 48 V Input DC-DC Converter, -40 to 85 degC, 10-pin Module (ERH10), Pb-Free (RoHS); Manufacturer: Texas Instruments; PartNumber: PTB48502AAH; Iout(Max)(A): 21; Regulated Outputs(#): 2; SubFamily: Standard Brick Module; Vin(Max)(V): 75; Vin(Min)(V): 36; VO Adjustable: TRUE; Vout(Max)(V): 3.4; Vout(Min)(V): 3.2; DatasheetVersion: SLTS218C; PackageVersion: 4205250/A; PackageReference: ERH10; PackageDescription: 10-Pin Plastic Special Shape, Body 36.83 x 56.39 mm; Supplier 1: Digi-Key; Supplier Part Number 1: 296-20312-ND; Supplier 2: Newark; Supplier Part Number 2: 71J7318; Supplier 3: Mouser; Supplier Part Number 3: 595-PTB48502AAH; Eco-Plan: Pb-Free (RoHS); Mounting Technology: Through Hole; ComponentLink1Description: Manufacturer URL; ComponentLink1URL: http://www.ti.com/; ComponentLink2Description: Datasheet; ComponentLink2URL: http://www.ti.com/general/docs/lit/getliterature.tsp?genericPartNumber=PTB48502A&fileType=pdf; ComponentLink3Description: Package Specification; ComponentLink3URL: http://www.ti.com/litv/pdf/mpds146; ComponentLink4Description: URL Link1; ComponentLink4URL: Samples URL:http://www.ti.com/product/ptb48502a#samples
footprint TI-ERH10_V (Module, 10-Leads, Body 56.39x36.83 mm)
pins: 1 +VI (power) "The positive input supply for the module with respect to -VI. When powering the module from a -48 V telecom central office supply, this input is connected to the primary system ground.", 2 SYNC OUT (out) "The signal generated by this pin is designed to be used exclusively with the PTB48510 in AC7 ADSL applications. When the Sync Out of this converter is connected directly to the Sync In pin of the PTB48510, both modules will (See Datasheet)", 3 ENABLE (in) "This is an open-collector (open-drain) positive logic input that enables the module output. This pin is referenced to -VI. A logic 0 at this pin disables the module's outputs, and a high impedance enables the outputs. If not (See Datasheet)", 4 ~{EN OUT} (oc) "This open-collector output may be used to enable the output of other DC/DC converters in applications where the power-up sequence of the related voltages must be precisely controlled. The output is used principally to (See Datasheet)", 5 -VI (power) "The negative input supply for the module, and the 0 VDC reference for the Enable, EN Out, and Sync Out signals. When the module is powered from a +48 -V supply, this input is connected to the 48-V Return.", 6 VO2 (power) "The lower regulated power output voltage, which is referenced to the COM node.", 7 COM (power) "The secondray return reference for the module's two regulated output voltages. It is dc isolated from the input supply pins.", 8 COM (power) "This signal is referenced to the COM node, and has a 3.3-k ohm internal pull-up resistor to VO1.", 9 VO2 ADJUST (in) "Using a single resistor, this pin allows VO2 to be adjustted higher or lower than the preset value . If not used, this pin should be left open circuit.", 10 VO1 (power) "The higher regulated power output voltage, which is referenced to the COM node."

## PTB48502AAZ
designator U?
3.3 / 1.2 V 45 W Output, 48 V Input DC-DC Converter, -40 to 85 degC, 10-pin Module (ERJ10), Pb-Free (RoHS); Manufacturer: Texas Instruments; PartNumber: PTB48502AAZ; Iout(Max)(A): 21; Regulated Outputs(#): 2; SubFamily: Standard Brick Module; Vin(Max)(V): 75; Vin(Min)(V): 36; Vout(Max)(V): 3.4; Vout(Min)(V): 3.2; DatasheetVersion: SLTS218C; PackageVersion: 4205251/B; PackageReference: ERJ10; PackageDescription: 10-Pin Plastic Special Shape, Body 36.83 x 56.39 mm; Supplier 1: Digi-Key; Supplier Part Number 1: 296-20313-ND; Supplier 2: Mouser; Supplier Part Number 2: 595-PTB48502AAZ; Eco-Plan: Pb-Free (RoHS); Mounting Technology: Surface Mount; ComponentLink1Description: Manufacturer URL; ComponentLink1URL: http://www.ti.com/; ComponentLink2Description: Datasheet; ComponentLink2URL: http://www.ti.com/general/docs/lit/getliterature.tsp?genericPartNumber=PTB48502A&fileType=pdf; ComponentLink3Description: Package Specification; ComponentLink3URL: http://www.ti.com/lit/ml/mpds147a/mpds147a.pdf; ComponentLink4Description: URL Link1; ComponentLink4URL: Samples URL:http://www.ti.com/product/ptb48502a
footprint TI-ERJ10_V (Module, 10-Leads, Body 56.39x36.83 mm)
pins: 1 +VI (power) "The positive input supply for the module with respect to -VI. When powering the module from a -48 V telecom central office supply, this input is connected to the primary system ground.", 2 SYNC OUT (out) "The signal generated by this pin is designed to be used exclusively with the PTB48510 in AC7 ADSL applications. When the Sync Out of this converter is connected directly to the Sync In pin of the PTB48510, both modules will (See Datasheet)", 3 ENABLE (in) "This is an open-collector (open-drain) positive logic input that enables the module output. This pin is referenced to -VI. A logic 0 at this pin disables the module's outputs, and a high impedance enables the outputs. If not (See Datasheet)", 4 ~{EN OUT} (oc) "This open-collector output may be used to enable the output of other DC/DC converters in applications where the power-up sequence of the related voltages must be precisely controlled. The output is used principally to (See Datasheet)", 5 -VI (power) "The negative input supply for the module, and the 0 VDC reference for the Enable, EN Out, and Sync Out signals. When the module is powered from a +48 -V supply, this input is connected to the 48-V Return.", 6 VO2 (power) "The lower regulated power output voltage, which is referenced to the COM node.", 7 COM (power) "The secondray return reference for the module's two regulated output voltages. It is dc isolated from the input supply pins.", 8 COM (power) "This signal is referenced to the COM node, and has a 3.3-k ohm internal pull-up resistor to VO1.", 9 VO2 ADJUST (in) "Using a single resistor, this pin allows VO2 to be adjustted higher or lower than the preset value . If not used, this pin should be left open circuit.", 10 VO1 (power) "The higher regulated power output voltage, which is referenced to the COM node."

## PTB48510AAH
designator U?
65 W + / - 5 V, Dual Complementary-Output DC-DC Converter, -40 to 85 degC, 8-pin Module (ERK8), Pb-Free (RoHS); Manufacturer: Texas Instruments; PartNumber: PTB48510AAH; Iout(Max)(A): 6.5; Regulated Outputs(#): 2; SubFamily: Standard Brick Module; Vin(Max)(V): 75; Vin(Min)(V): 36; VO Adjustable: TRUE; Vout(Max)(V): 5.25; Vout(Min)(V): 4.75; DatasheetVersion: SLTS219F; PackageVersion: 4205252-3/B; PackageReference: ERK8; PackageDescription: 8-Pin Plastic Special Shape, Body 36.83 x 56.39 mm; Supplier 1: Digi-Key; Supplier Part Number 1: 296-20314-ND; Supplier 2: Newark; Supplier Part Number 2: 10J9528; Supplier 3: Mouser; Supplier Part Number 3: 595-PTB48510AAH; Eco-Plan: Pb-Free (RoHS); Mounting Technology: Through Hole; ComponentLink1Description: Manufacturer URL; ComponentLink1URL: http://www.ti.com/; ComponentLink2Description: Datasheet; ComponentLink2URL: http://www.ti.com/general/docs/lit/getliterature.tsp?genericPartNumber=PTB48510A&fileType=pdf; ComponentLink3Description: Package Specification; ComponentLink3URL: http://www.ti.com/lit/ml/mpds148a/mpds148a.pdf; ComponentLink4Description: URL Link1; ComponentLink4URL: Samples URL:http://www.ti.com/lit/ds/symlink/ptb48510a.pdf
footprint TI-ERK8_V (Module, 8-Leads, Body 56.39x36.83 mm)
pins: 1 +VI (power) "The positive input supply for the module with respect to VI (or ground return). When powering the module from a -48 V telecom central office supply, this input is connected to the primary system ground.", 2 SYNC IN (in) "This pin is used when the PTB4851x and PTB4850x DC/DC converter modules are used together. Connecting this pin to the Sync Out of the PTB4850x module allows the PTB4851x to be synchronized to the same switch conversion (See Datasheet)", 3 ~{ENABLE} (in) "This is an open-collector (open-drain) negative logic input that enables the module output. This pin is referenced to -VI . A logic 0 at this pin enables the module's outputs, and a high impedance disables the outputs. If (See Datasheet)", 4 -VI (power) "The negative input supply for the module, and the 0 VDC reference for the Enable, and Sync In signals. When the module is powered from a +48-V supply, this input is connected to the 48-V Return.", 5 VO1 (power) "The positive output supply voltage, which is referenced to the COM node. The voltage at VO1 has the same magnitude, but is the complement to that at VO2 .", 6 COM (power) "The secondary return reference for the module's regulated output voltages. This node is dc isolated from the input supply pins.", 7 VOADJ (in) "Using a single resistor, this pin allows the magnitude of both VO1 and VO2 to be adjusted together, either higher or lower than their preset value. If not used, this pin should be left open circuit.", 8 VO2 (power) "The negative output supply voltage, which is referenced to the COM node. The voltage at VO2 has the same magnitude, but is the complement to that at VO1 ."

## PTB48510BAH
designator U?
72 W + / - 12 V, Dual Complementary-Output DC-DC Converter, -40 to 85 degC, 8-pin Module (ERK8), Pb-Free (RoHS); Manufacturer: Texas Instruments; PartNumber: PTB48510BAH; Iout(Max)(A): 3; Regulated Outputs(#): 2; SubFamily: 36V to 75V Input; Vin(Max)(V): 75; Vin(Min)(V): 36; VO Adjustable: TRUE; Vout(Max)(V): 12.4; Vout(Min)(V): 11.6; DatasheetVersion: SLTS219F; PackageVersion: 4205252-3/B; PackageReference: ERK8; PackageDescription: 8-Pin Plastic Special Shape, Body 36.83 x 56.39 mm; Supplier 1: Digi-Key; Supplier Part Number 1: PTB48510BAH-ND; Supplier 2: Mouser; Supplier Part Number 2: 595-PTB48510BAH; Eco-Plan: Pb-Free (RoHS); Mounting Technology: Through Hole; ComponentLink1Description: Manufacturer URL; ComponentLink1URL: http://www.ti.com/; ComponentLink2Description: Datasheet; ComponentLink2URL: http://www.ti.com/general/docs/lit/getliterature.tsp?genericPartNumber=PTB48510B&fileType=pdf; ComponentLink3Description: Package Specification; ComponentLink3URL: http://www.ti.com/lit/ml/mpds148a/mpds148a.pdf; ComponentLink4Description: URL Link1; ComponentLink4URL: Samples URL:http://www.ti.com/product/ptb48510b#samples
footprint TI-ERK8_V (Module, 8-Leads, Body 56.39x36.83 mm)
pins: 1 +VI (power) "The positive input supply for the module with respect to VI (or ground return). When powering the module from a -48 V telecom central office supply, this input is connected to the primary system ground.", 2 SYNC IN (in) "This pin is used when the PTB4851x and PTB4850x DC/DC converter modules are used together. Connecting this pin to the Sync Out of the PTB4850x module allows the PTB4851x to be synchronized to the same switch conversion (See Datasheet)", 3 ~{ENABLE} (in) "This is an open-collector (open-drain) negative logic input that enables the module output. This pin is referenced to -VI . A logic 0 at this pin enables the module's outputs, and a high impedance disables the outputs. If (See Datasheet)", 4 -VI (power) "The negative input supply for the module, and the 0 VDC reference for the Enable, and Sync In signals. When the module is powered from a +48-V supply, this input is connected to the 48-V Return.", 5 VO1 (power) "The positive output supply voltage, which is referenced to the COM node. The voltage at VO1 has the same magnitude, but is the complement to that at VO2 .", 6 COM (power) "The secondary return reference for the module's regulated output voltages. This node is dc isolated from the input supply pins.", 7 VOADJ (in) "Using a single resistor, this pin allows the magnitude of both VO1 and VO2 to be adjusted together, either higher or lower than their preset value. If not used, this pin should be left open circuit.", 8 VO2 (power) "The negative output supply voltage, which is referenced to the COM node. The voltage at VO2 has the same magnitude, but is the complement to that at VO1 ."

## PTB48510BAS
designator U?
72 W + / - 12 V, Dual Complementary-Output DC-DC Converter, -40 to 85 degC, 8-pin Module (ERL8); Manufacturer: Texas Instruments; PartNumber: PTB48510BAS; Eco-Plan: TBD; Iout(Max)(A): 3; Regulated Outputs(#): 2; SubFamily: 36V to 75V Input; Vin(Max)(V): 75; Vin(Min)(V): 36; VO Adjustable: TRUE; Vout(Max)(V): 12.4; Vout(Min)(V): 11.6; DatasheetVersion: SLTS219F; PackageVersion: 4205253-3/C; PackageReference: ERL8; PackageDescription: 8-Pin Plastic Special Shape, Body 36.83 x 56.39 mm; Supplier 1: Digi-Key; Supplier Part Number 1: 296-32710-ND; Supplier 2: Newark; Supplier Part Number 2: 21J8881; Supplier 3: Mouser; Supplier Part Number 3: 595-PTB48510BAS; Mounting Technology: Surface Mount; ComponentLink1Description: Manufacturer URL; ComponentLink1URL: http://www.ti.com/; ComponentLink2Description: Datasheet; ComponentLink2URL: http://www.ti.com/general/docs/lit/getliterature.tsp?genericPartNumber=PTB48510B&fileType=pdf; ComponentLink3Description: Package Specification; ComponentLink3URL: http://www.ti.com/lit/ml/mpds149b/mpds149b.pdf; ComponentLink4Description: URL Link1; ComponentLink4URL: Samples URL:http://www.ti.com/product/ptb48510b#samples
footprint TI-ERL8_V (Module, 8-Leads, Body 56.39x36.83 mm)
pins: 1 +VI (power) "The positive input supply for the module with respect to VI (or ground return). When powering the module from a -48 V telecom central office supply, this input is connected to the primary system ground.", 2 SYNC IN (in) "This pin is used when the PTB4851x and PTB4850x DC/DC converter modules are used together. Connecting this pin to the Sync Out of the PTB4850x module allows the PTB4851x to be synchronized to the same switch conversion (See Datasheet)", 3 ~{ENABLE} (in) "This is an open-collector (open-drain) negative logic input that enables the module output. This pin is referenced to -VI . A logic 0 at this pin enables the module's outputs, and a high impedance disables the outputs. If (See Datasheet)", 4 -VI (power) "The negative input supply for the module, and the 0 VDC reference for the Enable, and Sync In signals. When the module is powered from a +48-V supply, this input is connected to the 48-V Return.", 5 VO1 (power) "The positive output supply voltage, which is referenced to the COM node. The voltage at VO1 has the same magnitude, but is the complement to that at VO2 .", 6 COM (power) "The secondary return reference for the module's regulated output voltages. This node is dc isolated from the input supply pins.", 7 VOADJ (in) "Using a single resistor, this pin allows the magnitude of both VO1 and VO2 to be adjusted together, either higher or lower than their preset value. If not used, this pin should be left open circuit.", 8 VO2 (power) "The negative output supply voltage, which is referenced to the COM node. The voltage at VO2 has the same magnitude, but is the complement to that at VO1 ."